# EAGLE library part DS90CF363 (library lvds)
DS90CF363 65MHz LVDS transmitter IC, National Semiconductor. Equivalent part: THiNE LHC63LVDM63A (85MHz bandwidth)
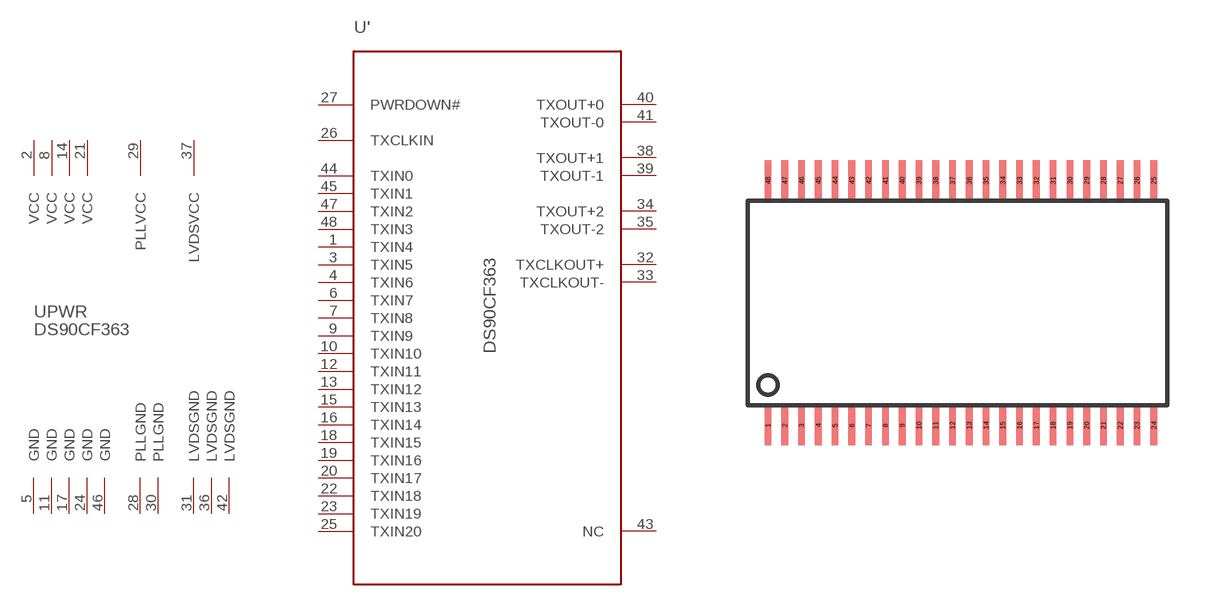
[diagram p0: symbol with the pads of TSSOP48; footprint TSSOP48]

Designator prefix -; gates PWR=DS90CF363PWR '=DS90CF363

## DS90CF363TSOP  [TSSOP48]
1  ':TXIN4  in
2  PWR:VCC  pwr
3  ':TXIN5  in
4  ':TXIN6  in
5  PWR:GND  pwr
6  ':TXIN7  in
7  ':TXIN8  in
8  PWR:VCC  pwr
9  ':TXIN9  in
10  ':TXIN10  in
11  PWR:GND  pwr
12  ':TXIN11  in
13  ':TXIN12  in
14  PWR:VCC  pwr
15  ':TXIN13  in
16  ':TXIN14  in
17  PWR:GND  pwr
18  ':TXIN15  in
19  ':TXIN16  in
20  ':TXIN17  in
21  PWR:VCC  pwr
22  ':TXIN18  in
23  ':TXIN19  in
24  PWR:GND  pwr
25  ':TXIN20  in
26  ':TXCLKIN  in
27  ':PWRDOWN#  in
28  PWR:PLLGND  pwr
29  PWR:PLLVCC  pwr
30  PWR:PLLGND  pwr
31  PWR:LVDSGND  pwr
32  ':TXCLKOUT+  out
33  ':TXCLKOUT-  out
34  ':TXOUT+2  out
35  ':TXOUT-2  out
36  PWR:LVDSGND  pwr
37  PWR:LVDSVCC  pwr
38  ':TXOUT+1  out
39  ':TXOUT-1  out
40  ':TXOUT+0  out
41  ':TXOUT-0  out
42  PWR:LVDSGND  pwr
43  ':NC  pas
44  ':TXIN0  in
45  ':TXIN1  in
46  PWR:GND  pwr
47  ':TXIN2  in
48  ':TXIN3  in

## Footprint TSSOP48 (pad centres in mm)
smd 0.2 x 1.2: 1 -5.7,-3.8; 2 -5.2,-3.8; 3 -4.7,-3.8; 4 -4.2,-3.8; 5 -3.7,-3.8; 6 -3.2,-3.8; 7 -2.7,-3.8; 8 -2.2,-3.8; 9 -1.7,-3.8; 10 -1.2,-3.8; 11 -0.7,-3.8; 12 -0.2,-3.8; 13 0.3,-3.8; 14 0.8,-3.8; 15 1.3,-3.8; 16 1.8,-3.8; 17 2.3,-3.8; 18 2.8,-3.8; 19 3.3,-3.8; 20 3.8,-3.8; 21 4.3,-3.8; 22 4.8,-3.8; 23 5.3,-3.8; 24 5.8,-3.8; 25 5.8,3.5; 26 5.3,3.5; 27 4.8,3.5; 28 4.3,3.5; 29 3.8,3.5; 30 3.3,3.5; 31 2.8,3.5; 32 2.3,3.5; 33 1.8,3.5; 34 1.3,3.5; 35 0.8,3.5; 36 0.3,3.5; 37 -0.2,3.5; 38 -0.7,3.5; 39 -1.2,3.5; 40 -1.7,3.5; 41 -2.2,3.5; 42 -2.7,3.5; 43 -3.2,3.5; 44 -3.7,3.5; 45 -4.2,3.5; 46 -4.7,3.5; 47 -5.2,3.5; 48 -5.7,3.5